# Altium footprint library TDK_EP5.PcbLib: 1 footprints
Each footprint in its own frame and in the unit in brackets; x right, y up, seen from the top. Pads: shape width x height; smd on the part's side, far side on the other; paste and mask are expansions set on the pad; w line width, h text height; cw(c..) or ccw(c..) is an arc to the next point about the centre after c.
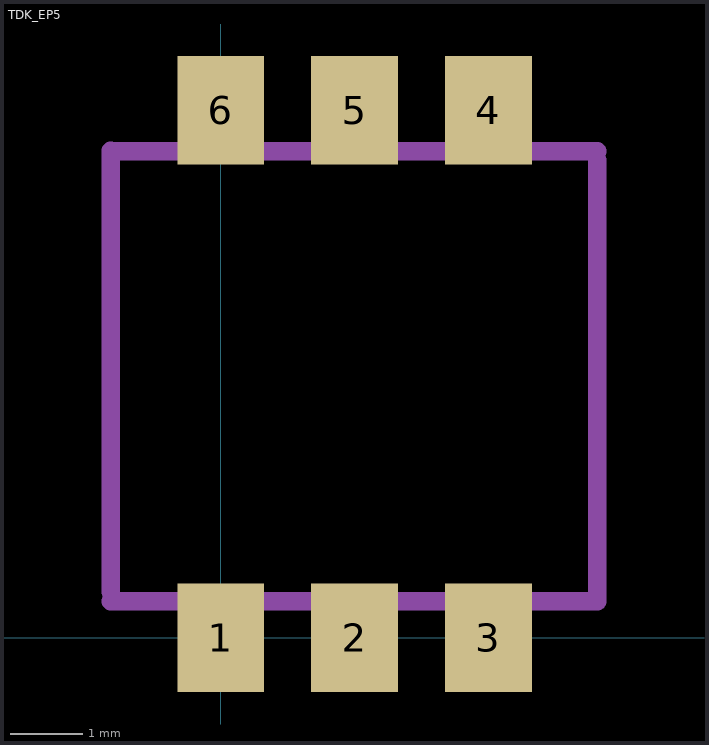
[diagram p0: the footprint, top view; thin cyan lines are the x and y axes]

## TDK_EP5 [mm]
pads (6):
  rect 1.2x1.5 smd: 1(0,0) 2(1.85,0) 3(3.7,0) 4(3.7,7.3) 5(1.85,7.3) 6(0,7.3)
Mechanical 1:
  lines w0.254: -1.524,0.508 5.176,0.508 ; -1.524,0.635 -1.524,6.735 ; -1.493,6.731 5.207,6.731 ; 5.207,0.504 5.207,6.604